# EAGLE library part SHARP_DUST_SENSOR (library air_quality_parts)
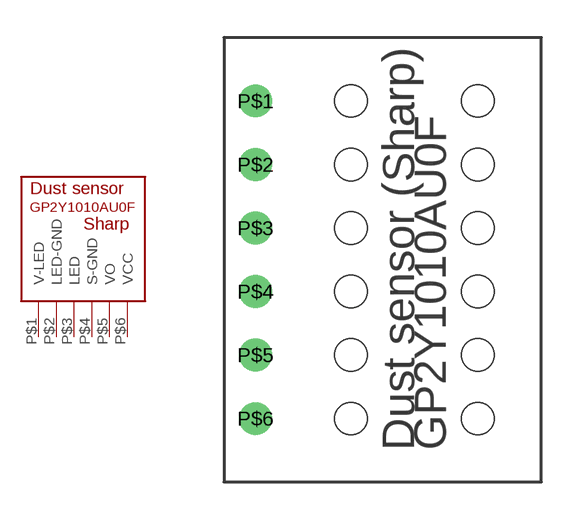
[diagram p0: symbol with the pads of 6PIN; footprint 6PIN]

Designator prefix -

## SHARP_DUST_SENSOR6PIN  [6PIN]
P$1  V-LED
P$2  LED-GND
P$3  LED
P$4  S-GND
P$5  VO
P$6  VCC

## Footprint 6PIN (pad centres in mm)
drill 0.8: P$1 -5.08,6.35; P$2 -5.08,3.81; P$3 -5.08,1.27; P$4 -5.08,-1.27; P$5 -5.08,-3.81; P$6 -5.08,-6.35
hole 1.3 at -1.27,6.35
hole 1.3 at -1.27,3.81
hole 1.3 at -1.27,1.27
hole 1.3 at -1.27,-1.27
hole 1.3 at -1.27,-3.81
hole 1.3 at -1.27,-6.35
hole 1.3 at 3.81,-6.35
hole 1.3 at 3.81,-3.81
hole 1.3 at 3.81,-1.27
hole 1.3 at 3.81,1.27
hole 1.3 at 3.81,3.81
hole 1.3 at 3.81,6.35